# Altium footprint library STMICRO_TO-220AB_HV.PcbLib: 1 footprints
Each footprint in its own frame and in the unit in brackets; x right, y up, seen from the top. Pads: shape width x height; smd on the part's side, far side on the other; paste and mask are expansions set on the pad; w line width, h text height; cw(c..) or ccw(c..) is an arc to the next point about the centre after c.
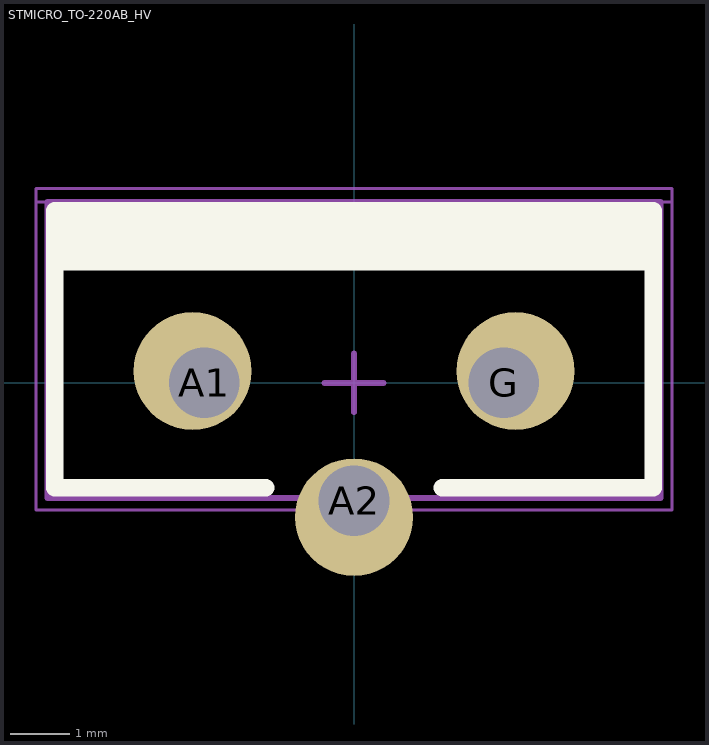
[diagram p0: the footprint, top view; thin cyan lines are the x and y axes]

## STMICRO_TO-220AB_HV [mm] "STMICRO_TO-220AB_HV"
height 19.65
pads (3):
  round 2 hole 1.2 copper offset -0.2,0.2 mask+0.05: A1(-2.54,0)
  round 2 hole 1.2 copper offset 0,-0.28 mask+0.05: A2(0,-2)
  round 2 hole 1.2 copper offset 0.2,0.2 mask+0.05: G(2.54,0)
Top Overlay:
  rectangle: -5.08,1.905 5.08,2.921
  lines w0.3: -1.5,-1.778 -5.08,-1.778 -5.08,2.921 5.08,2.921 5.08,-1.778 1.5,-1.778
Mechanical 13:
  lines w0.1: -5.2,-1.955 5.2,-1.955 5.2,3.07 -5.2,3.07 -5.2,-1.955
Mechanical 15:
  lines w0.05: -5.4,3.07 5.4,3.07 ; 3.1,2.5 3.4,2.5 3.5,2.6 3.5,3 ; 3.4,2.9 3.5,3 ; 3.6,2.9 3.5,3 ; -5.4,-2.159 5.4,-2.159 5.4,3.3 -5.4,3.3 -5.4,-2.159
  lines w0.1: -0.5,0 0.5,0 ; 0,-0.5 0,0.5
  text "Thermal Interface" at -2.879,2.25 h0.5